# EAGLE library part LAZURITE920J (library radio)
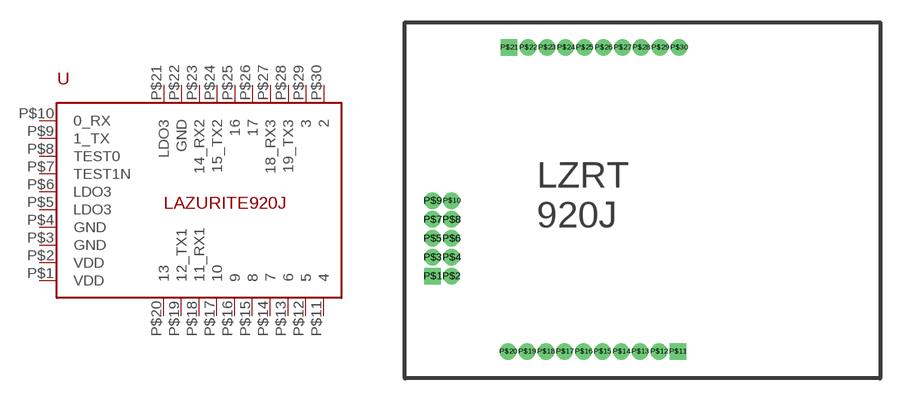
[diagram p0: symbol with the pads of LAZURITE920J_TH; footprint LAZURITE920J_TH]

Designator prefix U

## LAZURITE920J  [LAZURITE920J_TH]
P$1  VDD
P$2  VDD
P$3  GND
P$4  GND
P$5  LDO3
P$6  LDO3
P$7  TEST1N
P$8  TEST0
P$9  1_TX
P$10  0_RX
P$11  4
P$12  5
P$13  6
P$14  7
P$15  8
P$16  9
P$17  10
P$18  11_RX1
P$19  12_TX1
P$20  13
P$21  LDO3
P$22  GND
P$23  14_RX2
P$24  15_TX2
P$25  16
P$26  17
P$27  18_RX3
P$28  19_TX3
P$29  3
P$30  2

## Footprint LAZURITE920J_TH (pad centres in mm)
drill 0.6 square: P$1 1.88,6.9; P$11 18.38,1.82; P$21 7.02,22.31
drill 0.6: P$2 3.15,6.9; P$3 1.88,8.17; P$4 3.15,8.17; P$5 1.88,9.44; P$6 3.15,9.44; P$7 1.88,10.71; P$8 3.15,10.71; P$9 1.88,11.98; P$10 3.15,11.98; P$12 17.11,1.82; P$13 15.84,1.82; P$14 14.57,1.82; P$15 13.3,1.82; P$16 12.03,1.82; P$17 10.76,1.82; P$18 9.49,1.82; P$19 8.22,1.82; P$20 6.95,1.82; P$22 8.29,22.31; P$23 9.56,22.31; P$24 10.83,22.31; P$25 12.1,22.31; P$26 13.37,22.31; P$27 14.64,22.31; P$28 15.91,22.31; P$29 17.18,22.31; P$30 18.45,22.31